# Altium integrated library Transistors.IntLib: 12 symbols
Pins are listed as number, name and electrical type; pins without a type are passive.

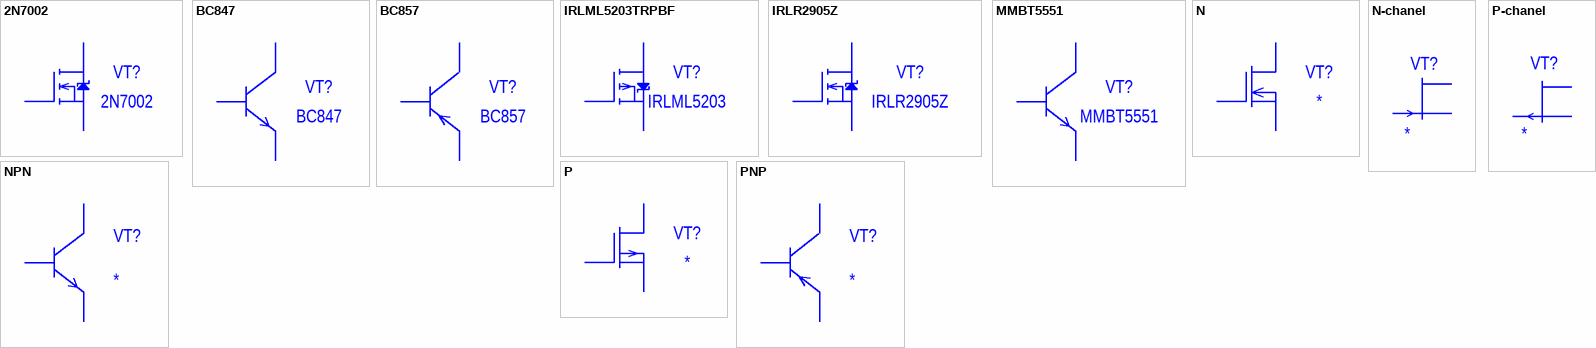
[diagram p0: symbols 2N7002 to PNP]

## 2N7002
designator VT?
Manufacturer: ON Semiconductor; Note: SOT-23; PartNumber: 2N7002
footprint SOT23_123
pins: 1 G, 2 D, 3 S

## BC847
designator VT?
Manufacturer: ON Semiconductor; Note: SOT-23; PartNumber: BC847
footprint SOT23_123
pins: 1, 2, 3

## BC857
designator VT?
Manufacturer: ON Semiconductor; Note: SOT-23; PartNumber: BC857
footprint SOT23_123
pins: 1, 2, 3

## IRLML5203TRPBF
designator VT?, comment IRLML5203
MOSFET P-CH 30V 3A SOT-23; PartNumber: IRLML5203TRPBF; Manufacturer: Infineon Technologies
footprint SOT23_123
pins: 1 G, 2 D, 3 S

## IRLR2905Z
designator VT?
Manufacturer: Infineon Technologies; PartNumber: IRLR2905Z
footprint DPAK
pins: 1 G, 2 D, 3 S

## MMBT5551
designator VT?
Manufacturer: ON Semiconductor; Note: SOT-23; PartNumber: MMBT5551
footprint SOT23_123
pins: 1, 2, 3

## N
designator VT?
PartNumber: *
pins: 1 G, 2 S, 3 D

## N-chanel
designator VT?
PartNumber: *
pins: 1, 2, 3

## NPN
designator VT?
PartNumber: *
pins: 1, 2, 3

## P
designator VT?
PartNumber: *
pins: 1 G, 2 S, 3 D

## P-chanel
designator VT?
PartNumber: *
pins: 1, 2, 3

## PNP
designator VT?
PartNumber: *
pins: 1, 2, 3